# Altium footprint library HCPL_3210.PcbLib: 1 footprints
Each footprint in its own frame and in the unit in brackets; x right, y up, seen from the top. Pads: shape width x height; smd on the part's side, far side on the other; paste and mask are expansions set on the pad; w line width, h text height; cw(c..) or ccw(c..) is an arc to the next point about the centre after c.
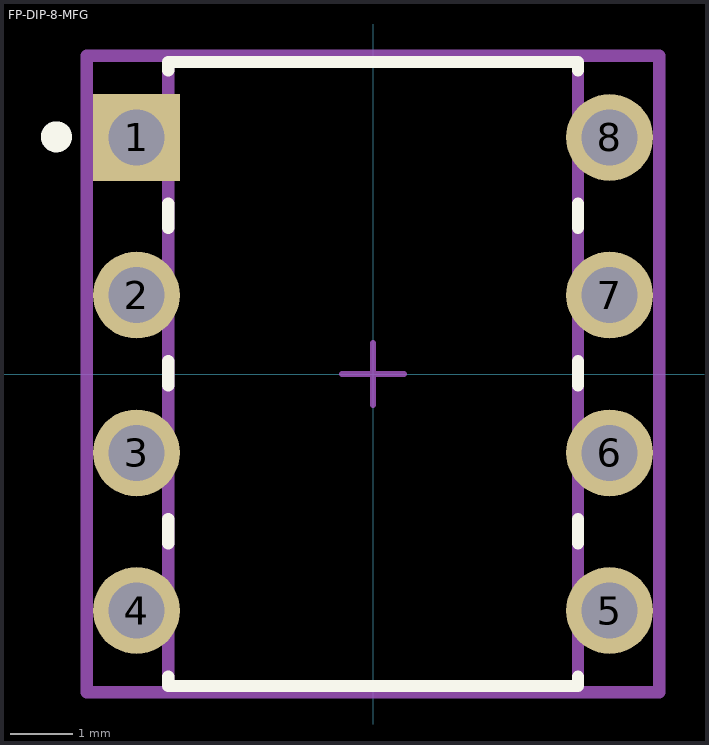
[diagram p0: the footprint, top view; thin cyan lines are the x and y axes]

## FP-DIP-8-MFG [mm]
pads (8):
  rect 1.4x1.4 hole 0.9 paste-1000 mask+0: 1(-3.81,3.81)
  round 1.4 hole 0.9 paste-1000 mask+0: 2(-3.81,1.27) 3(-3.81,-1.27) 4(-3.81,-3.81) 5(3.81,-3.81) 6(3.81,-1.27) 7(3.81,1.27) 8(3.81,3.81)
Top Overlay:
  circle w0.25: c-5.1,3.82 r0.125
  lines w0.2: -3.3,-4.875 -3.3,-5.025 3.3,-5.025 3.3,-4.875 ; -3.3,-2.725 -3.3,-2.335 ; -3.3,-0.185 -3.3,0.205 ; -3.3,2.355 -3.3,2.745 ; -3.3,4.895 -3.3,5.025 3.3,5.025 3.3,4.895 ; 3.3,-2.725 3.3,-2.335 ; 3.3,-0.185 3.3,0.205 ; 3.3,2.355 3.3,2.745
Top Assembly:
  lines w0.2: -4.61,-5.125 -4.61,5.125 4.61,5.125 4.61,-5.125 -4.61,-5.125
  text ".Designator" at 0,-0.001 h1
Top 3D Body:
  lines w0.2: -3.3,-5.025 -3.3,5.025 3.3,5.025 3.3,-5.025 -3.3,-5.025
Top Courtyard:
  lines w0.2: -4.61,-5.125 -4.61,5.125 4.61,5.125 4.61,-5.125 -4.61,-5.125
Top Component Center:
  lines w0.1: -0.5,0 0.5,0 ; 0,-0.5 0,0.5
3D body "Trans_Broadcom_HCPL-3120-000E_eec.STEP": height 0.25, standoff 0, extent -4.61,-5.125 4.61,5.125